# Altium footprint library CAPC0502X025.PcbLib: 3 footprints
Each footprint in its own frame and in the unit in brackets; x right, y up, seen from the top. Pads: shape width x height; smd on the part's side, far side on the other; paste and mask are expansions set on the pad; w line width, h text height; cw(c..) or ccw(c..) is an arc to the next point about the centre after c.
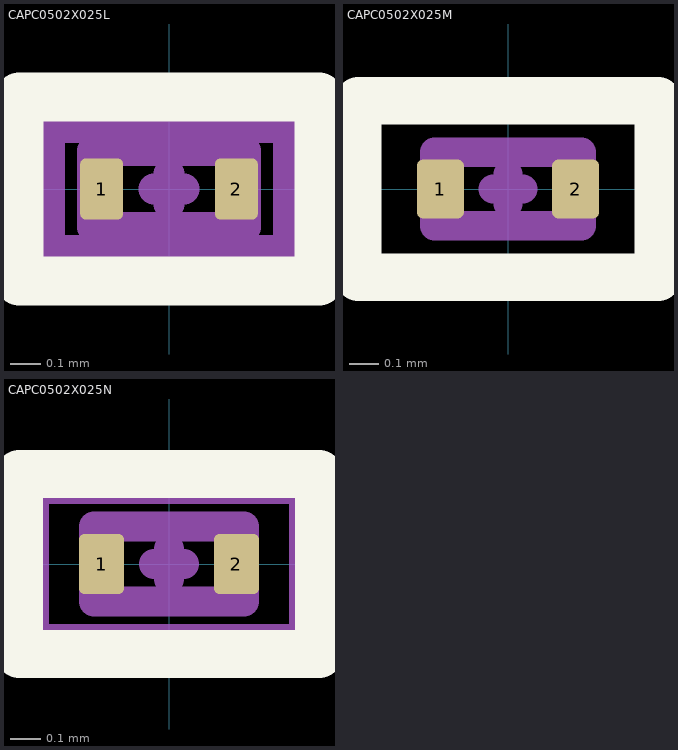
[diagram p0: the footprints below, top view; thin cyan lines are the x and y axes]

## CAPC0502X025L [mm] "Capacitors, Chip, Non-polarized"
height 0.275
pads (2):
  rrect25% 0.14x0.2 smd: 1(-0.22,0) 2(0.22,0)
Top Overlay:
  lines w0.16: -0.49,-0.3 0.49,-0.3 0.49,0.3 -0.49,0.3 -0.49,-0.3
Top Component Center:
  lines w0.1: -0.05,0 0.05,0 ; 0,-0.05 0,0.05
Top Courtyard:
  lines w0.1: -0.39,-0.2 0.39,-0.2 0.39,0.2 -0.39,0.2 -0.39,-0.2
Top Assembly:
  lines w0.1: -0.25,-0.125 0.25,-0.125 0.25,0.125 -0.25,0.125 -0.25,-0.125
  text ".Designator" at 0,0 h1
3D body "CAPC0502X025L.STEP": height 0.25, standoff 0, extent -0.25,-0.125 0.25,0.125

## CAPC0502X025M [mm] "Capacitors, Chip, Non-polarized"
height 0.275
pads (2):
  rrect25% 0.16x0.2 smd: 1(-0.23,0) 2(0.23,0)
Top Overlay:
  lines w0.16: -0.51,-0.3 0.51,-0.3 0.51,0.3 -0.51,0.3 -0.51,-0.3
Top Component Center:
  lines w0.1: -0.05,0 0.05,0 ; 0,-0.05 0,0.05
Top Courtyard:
  lines w0.1: -0.51,-0.3 0.51,-0.3 0.51,0.3 -0.51,0.3 -0.51,-0.3
Top Assembly:
  lines w0.1: -0.25,-0.125 0.25,-0.125 0.25,0.125 -0.25,0.125 -0.25,-0.125
  text ".Designator" at 0,0 h1
3D body "CAPC0502X025M.STEP": height 0.25, standoff 0, extent -0.25,-0.125 0.25,0.125

## CAPC0502X025N [mm] "Capacitors, Chip, Non-polarized"
height 0.275
pads (2):
  rrect25% 0.15x0.2 smd: 1(-0.225,0) 2(0.225,0)
Top Overlay:
  lines w0.16: -0.5,-0.3 0.5,-0.3 0.5,0.3 -0.5,0.3 -0.5,-0.3
Top Component Center:
  lines w0.1: -0.05,0 0.05,0 ; 0,-0.05 0,0.05
Top Courtyard:
  lines w0.1: -0.45,-0.25 0.45,-0.25 0.45,0.25 -0.45,0.25 -0.45,-0.25
Top Assembly:
  lines w0.1: -0.25,-0.125 0.25,-0.125 0.25,0.125 -0.25,0.125 -0.25,-0.125
  text ".Designator" at 0,0 h1
3D body "CAPC0502X025N.STEP": height 0.25, standoff 0, extent -0.25,-0.125 0.25,0.125